# EAGLE library part ADAFRUIT-GPS-BREAKOUT (library magzor)
Adafruit Ultamate GPS v3
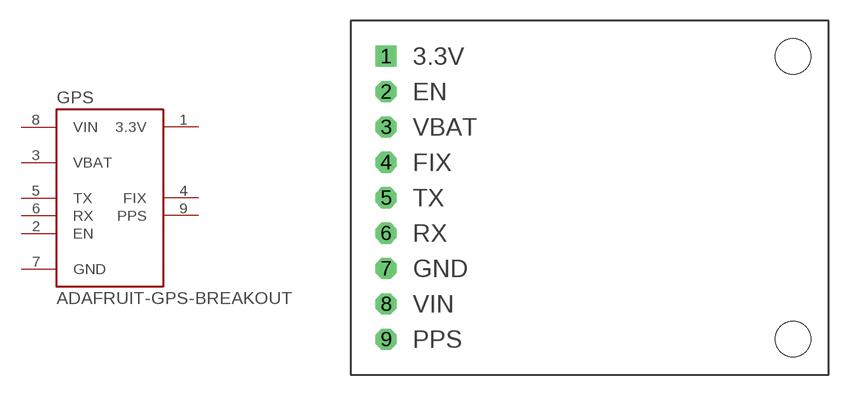
[diagram p39: symbol with the pads of ADAFRUIT-GPS-BREAKOUT-V3; footprint ADAFRUIT-GPS-BREAKOUT-V3]

Designator prefix GPS

## ADAFRUIT-GPS-BREAKOUT  [ADAFRUIT-GPS-BREAKOUT-V3]
1  3.3V
2  EN
3  VBAT
4  FIX
5  TX
6  RX
7  GND
8  VIN
9  PPS

## Footprint ADAFRUIT-GPS-BREAKOUT-V3 (pad centres in mm)
Adafruit Product ID: 746
drill 1.016 square: 1 0,10.16
drill 1.016 octagon: 2 0,7.62; 3 0,5.08; 4 0,2.54; 5 0,0; 6 0,-2.54; 7 0,-5.08; 8 0,-7.62; 9 0,-10.16
hole 2.54 at 29.21,10.16
hole 2.54 at 29.21,-10.16